# Altium footprint library Components.PcbLib: 86 footprints (part 3 of 6)
Each footprint in its own frame and in the unit in brackets; x right, y up, seen from the top. Pads: shape width x height; smd on the part's side, far side on the other; paste and mask are expansions set on the pad; w line width, h text height; cw(c..) or ccw(c..) is an arc to the next point about the centre after c.
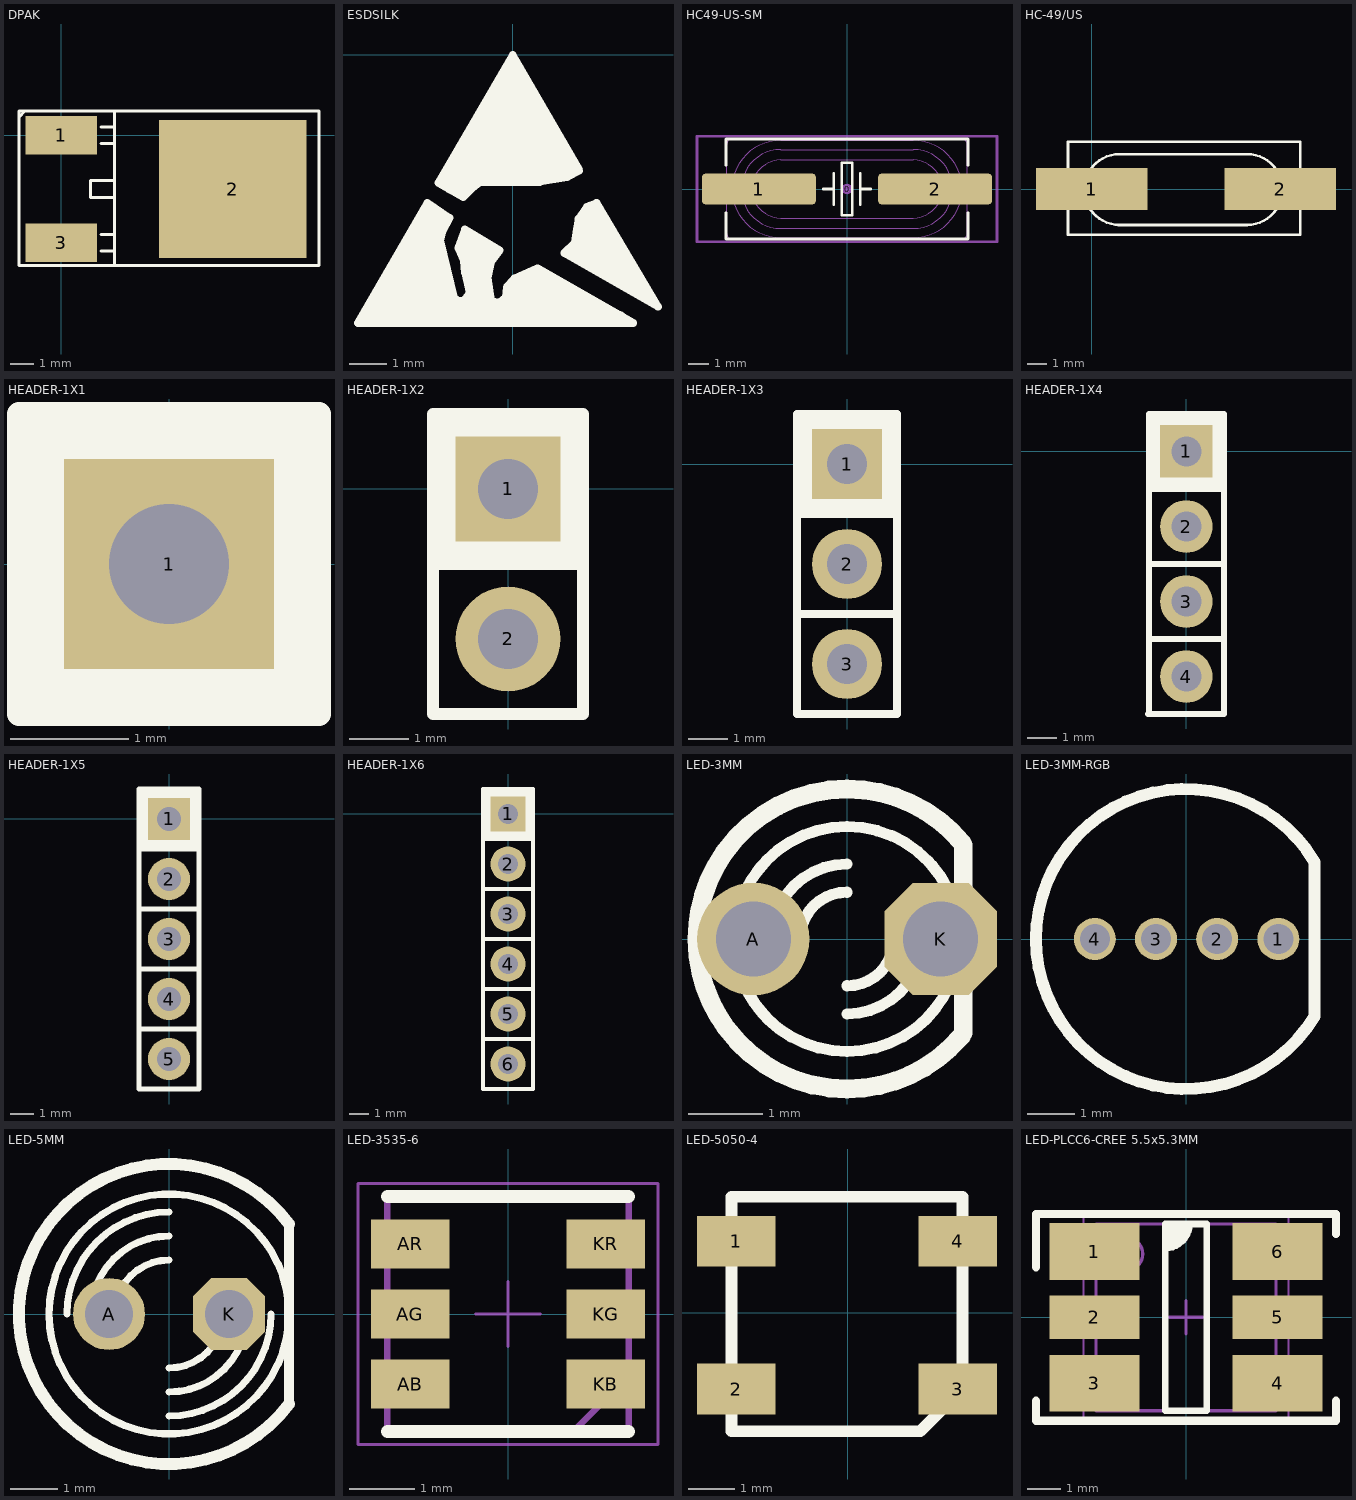
[diagram p2: the footprints below, top view; thin cyan lines are the x and y axes]

## DPAK [mm]
pads (3):
  rect 3x1.6 smd: 1(0,0) 3(0,-4.5)
  rect 6.2x5.8 smd: 2(7.18,-2.25)
Top Overlay:
  lines w0.127: -1.778,0.762 -1.524,1.016 ; 1.65,-4.85 2.225,-4.85 ; 1.65,-4.15 2.225,-4.15 ; 2.225,-5.45 2.225,0.95 ; 2.225,-2.6 1.225,-2.6 1.225,-1.9 2.225,-1.9 ; -1.778,-5.461 10.795,-5.461 10.795,1.016 -1.778,1.016 -1.778,-5.461 ; 1.65,-0.35 2.225,-0.35 1.65,-0.35 ; 1.65,0.35 2.225,0.35 1.65,0.35
3D body: height 0.51, standoff 0, extent -0.254,-0.504 0.965,0.461
3D body: height 1.52, standoff 0, extent 0.66,-0.504 0.965,0.461
3D body: height 1.52, standoff 1.02, extent 0.66,-0.504 2.388,0.461
3D body: height 1.52, standoff 1.02, extent 0.66,-5.004 2.388,-4.039
3D body: height 1.52, standoff 0, extent 0.66,-5.004 0.965,-4.039
3D body: height 1.27, standoff 0, extent 8.128,-4.978 9.982,0.559
3D body: height 0.51, standoff 0, extent -0.254,-5.004 0.965,-4.039
3D body: height 2, standoff 0, extent 2.184,-5.182 8.255,0.66
3D body: height 2.38, standoff 1.27, extent 2.184,-5.182 8.255,0.669
3D body: height 2.03, standoff 0, extent 4.521,-0.279 6.909,0.559

## ESDSILK [mm]
Top Overlay:
  lines w0.203: -4.153,-7.193 3.238,-7.193 0.673,-5.72 0.038,-5.999 -0.165,-6.228 -0.191,-6.507 -0.343,-6.634 -0.572,-6.609 -0.673,-5.974 -0.572,-5.542 -0.343,-5.237 -1.283,-4.678 -1.46,-5.186 -1.308,-5.517 -1.283,-5.847 -1.156,-6.38 -1.283,-6.558 -1.41,-6.609 -1.562,-6.533 -1.943,-4.983 -1.892,-4.755 -1.689,-4.374 -2.299,-3.967 -4.153,-7.193 ; -1.994,-3.434 -1.333,-3.815 -1.13,-3.612 -0.902,-3.434 0.724,-3.408 1.46,-3.281 1.791,-3.104 0,0 -1.994,-3.434 ; 1.384,-5.313 1.664,-5.034 1.714,-4.678 1.765,-4.399 1.994,-4.069 2.248,-3.967 3.899,-6.761 1.384,-5.313
  lines w0.381: 2.324,-6.939 2.857,-7.066 ; 3.188,-6.075 3.594,-6.431
  lines w0.635: -2.934,-6.583 -2.451,-5.745 -2.248,-6.939 -3.696,-6.939 -2.121,-4.374 -2.045,-4.551 -2.222,-4.907 -1.791,-6.888 -1.054,-6.888 ; -0.775,-5.288 -1.156,-5.11 -0.953,-5.567 -0.927,-6.71 -0.572,-6.939 0.038,-6.71 0.216,-6.304 0.673,-6.075 2.324,-6.939 ; -0.267,-6.939 1.74,-6.914 0.572,-6.558 ; -0.114,-2.24 0.572,-2.316 -0.038,-1.402 -0.851,-2.697 1.232,-2.799 0.013,-0.462 -1.613,-3.408 -1.359,-3.434 -0.902,-3.129 1.384,-3.002 ; 2.146,-4.348 1.816,-5.288 3.188,-6.075 2.248,-4.729

## HC49-US-SM [mm] "SMD Crystal HC49/US-SM package"
height 4.3
pads (3):
  round 0.508 on Mech15: 0(0,0)
  rrect25% 5.5x1.5 smd: 1(-4.25,0) 2(4.25,0)
Top Overlay:
  lines w0.127: -5.842,-1.143 -5.842,-2.413 5.842,-2.413 5.842,-1.143 ; -5.842,1.143 -5.842,2.413 5.842,2.413 5.842,1.143 ; -1.143,0 -0.635,0 ; -0.635,-0.762 -0.635,0.762 ; 0.635,-0.762 0.635,0.762 ; 0.635,0 1.143,0 ; -0.254,-1.27 -0.254,1.27 0.254,1.27 0.254,-1.27 -0.254,-1.27
Mechanical 13:
  lines w0.05: -5.8,-0.45 -6.4,-0.45 -6.4,0.45 -5.8,0.45 ; 5.8,-0.45 6.4,-0.45 6.4,0.45 5.8,0.45 ; -5.8,-2.165 ccw(c-5.55,-2.165) -5.55,-2.415 5.55,-2.415 ccw(c5.55,-2.165) 5.8,-2.165 5.8,2.165 ccw(c5.55,2.165) 5.55,2.415 -5.55,2.415 ccw(c-5.55,2.165) -5.8,2.165 -5.8,-2.165 ; -3.2,-2.35 cw(c-3.2,0) -3.2,2.35 3.2,2.35 cw(c3.2,0) 3.2,-2.35 -3.2,-2.35 ; -3.2,-1.9 cw(c-3.2,0) -3.2,1.9 3.2,1.9 cw(c3.2,0) 3.2,-1.9 -3.2,-1.9 ; -3.2,-1.4 cw(c-3.2,0) -3.2,1.4 3.2,1.4 cw(c3.2,0) 3.2,-1.4 -3.2,-1.4
Mechanical 15:
  lines w0.127: -7.239,-2.54 -7.239,2.54 7.239,2.54 7.239,-2.54 -7.239,-2.54
3D body: height 4.29, standoff -0.01, extent -6.4,-2.415 6.4,2.415

## HC-49/US [mm]
pads (2):
  rect 5.6x2.1 smd: 1(0,0) 2(9.5,0)
Top Overlay:
  lines w0.127: -0.173,-0.85 ccw(c1.402,-0.025) 1.402,-1.803 ; -0.173,0.8 cw(c1.402,-0.025) 1.402,1.753 ; 1.351,-1.812 7.837,-1.812 ; 1.351,1.753 7.828,1.753 cw(c7.828,-0.025) 9.403,0.8 ; 7.828,-1.803 ccw(c7.828,-0.025) 9.403,-0.85 ; -1.189,-2.311 -1.189,2.388 10.495,2.388 10.495,-2.311 -1.189,-2.311
3D body: height 0.51, standoff 0, extent -1.202,-2.298 10.495,2.388
3D body: height 1.02, standoff 0, extent -1.189,1.118 0.614,2.388
3D body: height 0.25, standoff 0, extent -2.169,-0.419 -0.848,0.394
3D body: height 3.05, standoff 0, extent -0.385,-1.812 9.589,1.762
3D body: height 1.02, standoff 0, extent -1.202,-2.298 0.602,-1.028
3D body: height 1.02, standoff 0, extent 8.704,-2.298 10.508,-1.028
3D body: height 0.25, standoff 0, extent 10.404,-0.419 11.725,0.394
3D body: height 1.02, standoff 0, extent 8.692,1.118 10.495,2.388

## HEADER-1X1 [mil]
pads (1):
  rect 70x70 hole 40: 1(0,0)
Top Overlay:
  rectangle: -50,-49.62 50,50
  lines w8: -50,-50 -50,50 50,50 50,-50 ; -50,-50 50,-50 ; -50,-50 50,-50
3D body: height 100, standoff 0, extent -50,-49.5 50,50
3D body: height 470, standoff -120, extent -15,-15 15,15
3D body: height 101, standoff 100, extent -35,-35 35.5,35

## HEADER-1X2 [mil]
pads (2):
  rect 70x70 hole 40: 1(0,0)
  round 70 hole 40: 2(0,-100)
Top Overlay:
  rectangle: -50,-49.62 50,50
  lines w8: -50,-50 50,-50 ; -50,-150 50,-150 50,50 -50,50 -50,-150
3D body: height 101, standoff 100, extent -35,-35 35.5,35
3D body: height 470, standoff -120, extent -15,-15 15,15
3D body: height 470, standoff -120, extent -15,-115 15,-85
3D body: height 100, standoff 0, extent -50,-150 50,50

## HEADER-1X3 [mil]
pads (3):
  rect 70x70 hole 40: 1(0,0)
  round 70 hole 40: 2(0,-100) 3(0,-200)
Top Overlay:
  rectangle: -50,-49.62 50,50
  lines w8: -50,-150 50,-150 ; -50,-50 50,-50 ; -50,-250 50,-250 ; -50,-250 50,-250 ; -50,-250 -50,50 50,50 50,-250
3D body: height 101, standoff 100, extent -35,-35 35.5,35
3D body: height 470, standoff -120, extent -15,-15 15,15
3D body: height 470, standoff -120, extent -15,-115 15,-85
3D body: height 100, standoff 0, extent -50,-250 50,50
3D body: height 470, standoff -120, extent -15,-215 15,-185

## HEADER-1X4 [mil]
pads (4):
  rect 70x70 hole 40: 1(0,0)
  round 70 hole 40: 2(0,-100) 3(0,-200) 4(0,-300)
Top Overlay:
  rectangle: -50,-49.62 50,50
  lines w8: -51,-350 49,-350 ; -50,-250 50,-250 ; -50,-150 50,-150 ; -50,-50 50,-50 ; -50,-350 -50,50 50,50 50,-350 ; -50,-350 50,-350 ; -50,-350 50,-350
3D body: height 470, standoff -120, extent -15,-215 15,-185
3D body: height 100, standoff 0, extent -50,-350 50,50
3D body: height 470, standoff -120, extent -15,-115 15,-85
3D body: height 470, standoff -120, extent -15,-15 15,15
3D body: height 470, standoff -120, extent -15,-315 15,-285
3D body: height 101, standoff 100, extent -35,-35 35.5,35

## HEADER-1X5 [mil]
pads (5):
  rect 70x70 hole 40: 1(0,0)
  round 70 hole 40: 2(0,-100) 3(0,-200) 4(0,-300) 5(0,-400)
Top Overlay:
  rectangle: -50,-49.62 50,50
  lines w8: -50,-350 50,-350 ; -50,-250 50,-250 ; -50,-150 50,-150 ; -50,-50 50,-50 ; -50,-450 -50,50 50,50 50,-450 -50,-450
3D body: height 470, standoff -120, extent -15,-215 15,-185
3D body: height 100, standoff 0, extent -50,-450 50,50
3D body: height 470, standoff -120, extent -15,-115 15,-85
3D body: height 470, standoff -120, extent -15,-15 15,15
3D body: height 470, standoff -120, extent -15,-315 15,-285
3D body: height 470, standoff -120, extent -15,-415 15,-385
3D body: height 101, standoff 100, extent -35,-35 35.5,35

## HEADER-1X6 [mil]
pads (6):
  rect 70x70 hole 40: 1(0,0)
  round 70 hole 40: 2(0,-100) 3(0,-200) 4(0,-300) 5(0,-400) 6(0,-500)
Top Overlay:
  rectangle: -50,-49.62 50,50
  lines w8: -50,-250 50,-250 ; -50,-150 50,-150 ; -50,-50 50,-50 ; -50,-550 50,-550 ; -50,-550 50,-550 ; -50,-550 -50,50 50,50 50,-550 ; -50,-550 50,-550 ; -50,-450 50,-450 -50,-450 ; -50,-350 50,-350 -50,-350
3D body: height 101, standoff 100, extent -35,-35 35.5,35
3D body: height 470, standoff -120, extent -15,-515 15,-485
3D body: height 470, standoff -120, extent -15,-415 15,-385
3D body: height 470, standoff -120, extent -15,-315 15,-285
3D body: height 470, standoff -120, extent -15,-15 15,15
3D body: height 470, standoff -120, extent -15,-115 15,-85
3D body: height 100, standoff 0, extent -50,-550 50,50
3D body: height 470, standoff -120, extent -15,-215 15,-185

## LED-3MM [mil]
pads (2):
  round 60 hole 40: A(-50,0)
  oct 60x60 hole 40: K(50,0)
Top Overlay:
  lines w6: -48,36 cw(c0,0) 0,60 cw(c0,0) 48.82,34.87 ; -47.36,-36.83 ccw(c0,0) 0,-60 ccw(c0,0) 47.36,-36.83 ; -46.09,38.41 ccw(c0,0) -60,0 ccw(c0,0) -44.85,-39.86 ; -40,0 cw(c0,0) 0,40 ; -25,0 cw(c0,0) 0,25 ; 0,-40 ccw(c0,0) 40,0 ; 0,-25 ccw(c0,0) 25,0 ; 45.56,39.05 cw(c0,0) 60,0 cw(c0,0) 46.09,-38.41
  lines w10: -70.59,37.65 cw(c0,0) 0,80 cw(c0,0) 61.46,51.22 ; -70.44,37.93 ccw(c0,0) -80,0 ccw(c0,0) -68.13,-41.92 ; -69.46,-39.69 ccw(c0,0) 0,-80 ccw(c0,0) 61.07,-51.68 ; 62,-50 62,50
3D body: height 110, standoff 70, extent -65,-62.87 64.49,66.87
3D body: height 250, standoff 130, extent -59,-59 60.37,60.49
3D body: height 190, standoff 70, extent -59,-59 60.53,60.76
3D body: height 110, standoff 100, extent -5,-5 5,5
3D body: height 100, standoff 90, extent -29,-7 -20,7
3D body: height 60, standoff -120, extent -62.5,-13 -37.5,12
3D body: height 100, standoff 90, extent -15,-33 40,33
3D body: height 90, standoff 50, extent 19,-12.5 62,12.5
3D body: height 90, standoff 50, extent -63,-13 -20,12
3D body: height 50, standoff -120, extent 37,-12.5 62,12.5

## LED-3MM-RGB [mil] "5mm RGB LED"
pads (4):
  round 35 hole 25: 1(77,0) 2(26,0) 3(-25,0) 4(-76,0)
Top Overlay:
  lines w10: 107.07,-64.51 cw(c0,0) 107.19,64.31 107.19,-64.39

## LED-5MM [mil]
pads (2):
  round 60 hole 40: A(-50,0)
  oct 60x60 hole 40: K(50,0)
Top Overlay:
  circle w6: c0,0 r100
  lines w6: -85,0 cw(c0,0) 0,85 ; -65,0 cw(c0,0) 0,65 ; -45,0 cw(c0,0) 0,45 ; 0,-85 ccw(c0,0) 85,0 ; 0,-65 ccw(c0,0) 65,0 ; 0,-45 ccw(c0,0) 45,0
  lines w8: 100,-75 100,75
  lines w10: 100,-75 cw(c0,0) 100,75
3D body: height 110, standoff 70, extent -104.17,-105 105,104.59
3D body: height 370, standoff 170, extent -99,-100 99.96,99.15
3D body: height 270, standoff 70, extent -99,-100 100.21,99.61
3D body: height 170, standoff 160, extent -5,-5 5,5
3D body: height 160, standoff 150, extent -29,-7 -20,7
3D body: height 60, standoff -120, extent -62.5,-13 -37.5,12
3D body: height 160, standoff 150, extent -15,-33 40,33
3D body: height 150, standoff 50, extent 19,-12.5 62,12.5
3D body: height 150, standoff 50, extent -63,-13 -20,12
3D body: height 50, standoff -120, extent 37,-12.5 62,12.5

## LED-3535-6 [mm] "SMD Full-color Top LED Diffused, body 3.7x3.5mm"
height 2.9
pads (6):
  rect 1.2x0.75 smd: AB(-1.5,-1.075) AG(-1.5,0) AR(-1.5,1.075) KB(1.5,-1.075) KG(1.5,0) KR(1.5,1.075)
Top Overlay:
  lines w0.2: -1.85,-1.8 1.85,-1.8 ; -1.85,1.8 1.85,1.8
Mechanical 13:
  lines w0.1: 1.05,-1.75 1.85,-0.95 ; -1.85,-1.75 1.85,-1.75 1.85,1.75 -1.85,1.75 -1.85,-1.75
Mechanical 15:
  lines w0.05: -0.5,0 0.5,0 ; 0,-0.5 0,0.5 ; -2.3,-2 2.3,-2 2.3,2 -2.3,2 -2.3,-2
3D body: height 2.8, standoff 0, extent -1.85,-1.75 1.85,1.75

## LED-5050-4 [mm] "Intelligent control LED  integrated light source"
pads (4):
  rect 1.7x1.1 smd: 1(-2.413,1.549) 2(-2.413,-1.651) 3(2.388,-1.651) 4(2.388,1.549)
Top Overlay:
  lines w0.254: -2.515,-2.565 1.575,-2.565 2.489,-1.651 2.489,2.515 -2.515,2.515 -2.515,-2.489

## LED-PLCC6-CREE 5.5x5.3MM [mm] "SOJ, 6-Leads, Body 5.60x5.50mm, Pitch 1.80mm, IPC Medium Density"
height 2.6
pads (6):
  rect 2.7x1.7 smd: 1(-2.75,1.975) 3(-2.75,-1.975) 4(2.75,-1.975) 6(2.75,1.975)
  rect 2.7x1.3 smd: 2(-2.75,0) 5(2.75,0)
Top Overlay:
  region: -0.625,2.8 0.125,2.8 0.125,2.475 -0.275,2.075 -0.625,2.075
  lines w0.2: -0.625,2.075 ccw(c-0.625,2.8) 0.1,2.8 ; -0.625,-2.8 -0.625,2.8 0.625,2.8 0.625,-2.8 -0.625,-2.8
  lines w0.254: -4.5,-2.5 -4.5,-3.1 4.5,-3.1 4.5,-2.5 ; -4.5,1.5 -4.5,3.1 4.5,3.1 4.5,2.5
Mechanical 13:
  circle w0.1: c-1.8,1.9 r0.5
  lines w0.1: -2.7,-2.8 -2.7,2.8 2.7,2.8 2.7,-2.8 -2.7,-2.8
Mechanical 15:
  lines w0.05: -3.075,-3.05 -3.075,3.05 3.075,3.05 3.075,-3.05 -3.075,-3.05
  lines w0.1: -0.5,0 0.5,0 ; 0,-0.5 0,0.5
3D body: height 2.6, standoff 0, extent -2.75,-2.75 2.75,2.75